# EAGLE library part IRF7424 (library CEDTv76)
IRF7424 International Rectifier HEXFET® Power MOSFET (P Channel) VDSS = -30V RDS(on) max (mW) = 13.5 Ohms @VGS = -10V and ID = -11A 22 Ohms @VGS = -4.5V and ID=-8.8A These P-Channel MOSFETs from International Rectifier utilize advanced processing techniques to achieve the extremely low on-resistance per silicon area. This benefit provides the designer with an extremely efficient device for use in battery and load management applications. The SO-8 has been modified through a customized leadframe for enhanced thermal characteristics and multiple-die capability making it ideal in a variety of power applications. With these improvements, multiple devices can be used in an application with dramatically reduced board space. The package is designed for vapor phase, infrared, or wave soldering techniques. Anurag Chugh
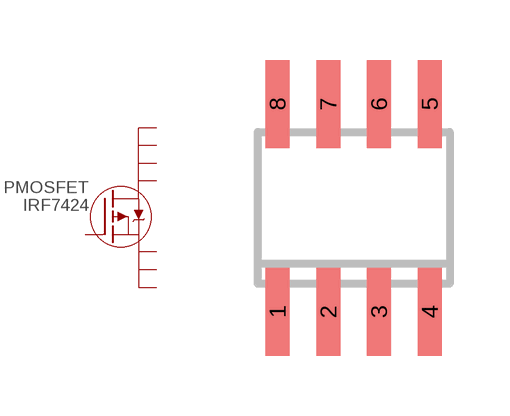
[diagram p22: symbol with the pads of SO08; footprint SO08]

Designator prefix PMOSFET

## IRF7424  [SO08]
1  S1
2  S2
3  S3
4  G
5  D4
6  D3
7  D2
8  D1

## Footprint SO08 (pad centres in mm)
Small Outline Package 8 NS Package M08A
smd 0.6 x 2.2: 1 -1.905,-2.6; 2 -0.635,-2.6; 3 0.635,-2.6; 4 1.905,-2.6; 5 1.905,2.6; 6 0.635,2.6; 7 -0.635,2.6; 8 -1.905,2.6